# EAGLE library part AD8XXX (library QuantumOptics)
AD8xxx, Analog Devices, dual opamp in SOIC-8 and MSOP-8, various versions available. AD8066, AD8656, etc. e.g. http://www.analog.com/UploadedFiles/Data_Sheets/476080131AD8655_6_a.pdf
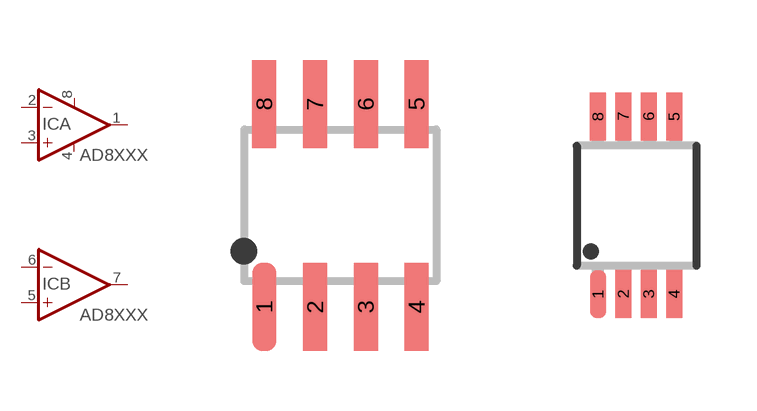
[diagram p27: symbol with the pads of SOIC-8; footprints SOIC-8, MSOP8]

Designator prefix IC; gates A=OPAMP B=OPAMP PWR=PWR+-

## AD8XXX-SOIC-8  [SOIC-8]
1  A:OUT  out
2  A:-IN  in
3  A:+IN  in
4  PWR:V-
5  B:+IN  in
6  B:-IN  in
7  B:OUT  out
8  PWR:V+

## AD8XXX-MSOP-8  [MSOP8]
Pads as for SOIC-8

## Footprint SOIC-8 (pad centres in mm)
SOIC-8 (a.k.a. SO-8), pads on 0.050" x 0.200" c-c spacing.
smd 0.6 x 2.2: 1 -1.27,-2.54; 2 0,-2.54; 3 1.27,-2.54; 4 2.54,-2.54; 5 2.54,2.54; 6 1.27,2.54; 7 0,2.54; 8 -1.27,2.54

## Footprint MSOP8 (pad centres in mm)
MSOP-8, A.K.A. RM-8. Use 0.025" grid.
smd 0.4 x 1.2: 1 -0.635,-1.905; 2 0,-1.905; 3 0.635,-1.905; 4 1.27,-1.905; 5 1.27,2.54; 6 0.635,2.54; 7 0,2.54; 8 -0.635,2.54